# Altium footprint library Resistor_THT.PcbLib: 104 footprints (part 7 of 7)
Each footprint in its own frame and in the unit in brackets; x right, y up, seen from the top. Pads: shape width x height; smd on the part's side, far side on the other; paste and mask are expansions set on the pad; w line width, h text height; cw(c..) or ccw(c..) is an arc to the next point about the centre after c.
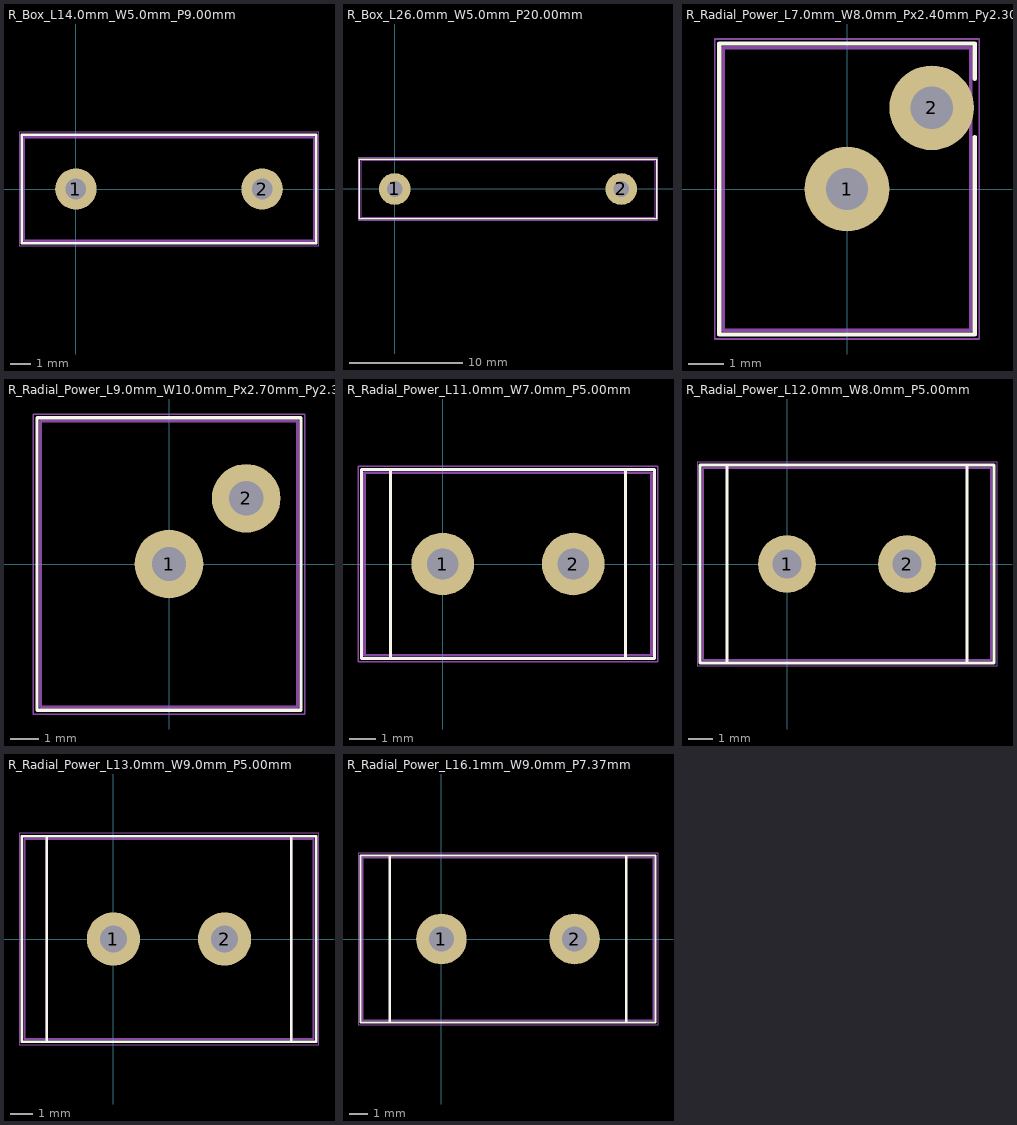
[diagram p6: the footprints below, top view; thin cyan lines are the x and y axes]

## R_Box_L14.0mm_W5.0mm_P9.00mm [mm]
pads (2):
  round 2 hole 1: 1(0,0) 2(9,0)
F.SilkS:
  lines w0.12: -2.62,-2.62 11.62,-2.62 11.62,2.62 -2.62,2.62 -2.62,-2.62
F.CrtYd:
  lines w0.05: -2.75,-2.75 -2.75,2.75 11.75,2.75 11.75,-2.75 -2.75,-2.75
F.Fab:
  lines w0.1: -2.5,-2.5 -2.5,2.5 11.5,2.5 11.5,-2.5 -2.5,-2.5
  text "'.Designator'" at 0.453,-0.84 h1

## R_Box_L26.0mm_W5.0mm_P20.00mm [mm]
pads (2):
  round 2.8 hole 1.4: 1(0,0) 2(20,0)
F.SilkS:
  lines w0.12: -3.12,-2.62 -3.12,2.62 23.12,2.62 23.12,-2.62 -3.12,-2.62
F.CrtYd:
  lines w0.05: -3.25,-2.75 23.25,-2.75 23.25,2.75 -3.25,2.75 -3.25,-2.75
F.Fab:
  lines w0.1: -3,-2.5 -3,2.5 23,2.5 23,-2.5 -3,-2.5
  text "'.Designator'" at 5.953,-0.84 h1

## R_Radial_Power_L7.0mm_W8.0mm_Px2.40mm_Py2.30mm [mm]
pads (2):
  round 2.4 hole 1.2: 1(0,0) 2(2.4,2.3)
F.SilkS:
  lines w0.12: 3.62,1.475 3.62,-4.12 -3.62,-4.12 -3.62,4.12 3.62,4.12 3.62,3.125
F.CrtYd:
  lines w0.05: -3.75,-4.25 -3.75,4.25 3.75,4.25 3.75,-4.25 -3.75,-4.25
F.Fab:
  lines w0.1: -3.5,-4 -3.5,4 3.5,4 3.5,-4 -3.5,-4
  text "'.Designator'" at -2.847,-0.84 h1

## R_Radial_Power_L9.0mm_W10.0mm_Px2.70mm_Py2.30mm [mm]
pads (2):
  round 2.4 hole 1.2: 1(0,0) 2(2.7,2.3)
F.SilkS:
  lines w0.12: -4.62,-5.12 -4.62,5.12 4.62,5.12 4.62,-5.12 -4.62,-5.12
F.CrtYd:
  lines w0.05: -4.75,-5.25 4.75,-5.25 4.75,5.25 -4.75,5.25 -4.75,-5.25
F.Fab:
  lines w0.1: -4.5,-5 -4.5,5 4.5,5 4.5,-5 -4.5,-5
  text "'.Designator'" at -2.697,-0.84 h1

## R_Radial_Power_L11.0mm_W7.0mm_P5.00mm [mm]
pads (2):
  round 2.4 hole 1.2: 1(0,0) 2(5,0)
F.SilkS:
  lines w0.12: -2,-3.62 -2,3.62 ; 7,-3.62 7,3.62 ; -3.12,-3.62 8.12,-3.62 8.12,3.62 -3.12,3.62 -3.12,-3.62
F.CrtYd:
  lines w0.05: -3.25,-3.75 -3.25,3.75 8.25,3.75 8.25,-3.75 -3.25,-3.75
F.Fab:
  lines w0.1: -2,-3.5 -2,3.5 ; 7,-3.5 7,3.5 ; -3,-3.5 -3,3.5 8,3.5 8,-3.5 -3,-3.5
  text "'.Designator'" at -1.547,-0.84 h1

## R_Radial_Power_L12.0mm_W8.0mm_P5.00mm [mm]
pads (2):
  round 2.4 hole 1.2: 1(0,0) 2(5,0)
F.SilkS:
  lines w0.12: -2.5,-4.12 -2.5,4.12 ; 7.5,-4.12 7.5,4.12 ; -3.62,-4.12 -3.62,4.12 8.62,4.12 8.62,-4.12 -3.62,-4.12
F.CrtYd:
  lines w0.05: -3.75,-4.25 8.75,-4.25 8.75,4.25 -3.75,4.25 -3.75,-4.25
F.Fab:
  lines w0.1: -2.5,-4 -2.5,4 ; 7.5,-4 7.5,4 ; -3.5,-4 -3.5,4 8.5,4 8.5,-4 -3.5,-4
  text "'.Designator'" at -1.547,-0.84 h1

## R_Radial_Power_L13.0mm_W9.0mm_P5.00mm [mm]
pads (2):
  round 2.4 hole 1.2: 1(0,0) 2(5,0)
F.SilkS:
  lines w0.12: -3,-4.62 -3,4.62 ; 8,-4.62 8,4.62 ; -4.12,-4.62 -4.12,4.62 9.12,4.62 9.12,-4.62 -4.12,-4.62
F.CrtYd:
  lines w0.05: -4.25,-4.75 -4.25,4.75 9.25,4.75 9.25,-4.75 -4.25,-4.75
F.Fab:
  lines w0.1: -3,-4.5 -3,4.5 ; 8,-4.5 8,4.5 ; -4,-4.5 -4,4.5 9,4.5 9,-4.5 -4,-4.5
  text "'.Designator'" at -1.547,-0.84 h1

## R_Radial_Power_L16.1mm_W9.0mm_P7.37mm [mm]
pads (2):
  round 2.8 hole 1.4: 1(0,0) 2(7.37,0)
F.SilkS:
  lines w0.12: -2.866,-4.62 -2.866,4.62 ; 10.236,-4.62 10.236,4.62 ; -4.485,-4.62 11.855,-4.62 11.855,4.62 -4.485,4.62 -4.485,-4.62
F.CrtYd:
  lines w0.05: -4.62,-4.75 11.99,-4.75 11.99,4.75 -4.62,4.75 -4.62,-4.75
F.Fab:
  lines w0.1: -2.865,-4.5 -2.865,4.5 ; 10.235,-4.5 10.235,4.5 ; -4.365,-4.5 -4.365,4.5 11.735,4.5 11.735,-4.5 -4.365,-4.5
  text "'.Designator'" at -0.362,-0.84 h1